# EAGLE library part RS-9110-N-11-22 (library Modules)
RS-9110-N-11-22 Self Contained 802.11b/g/n Module with Networking Stack
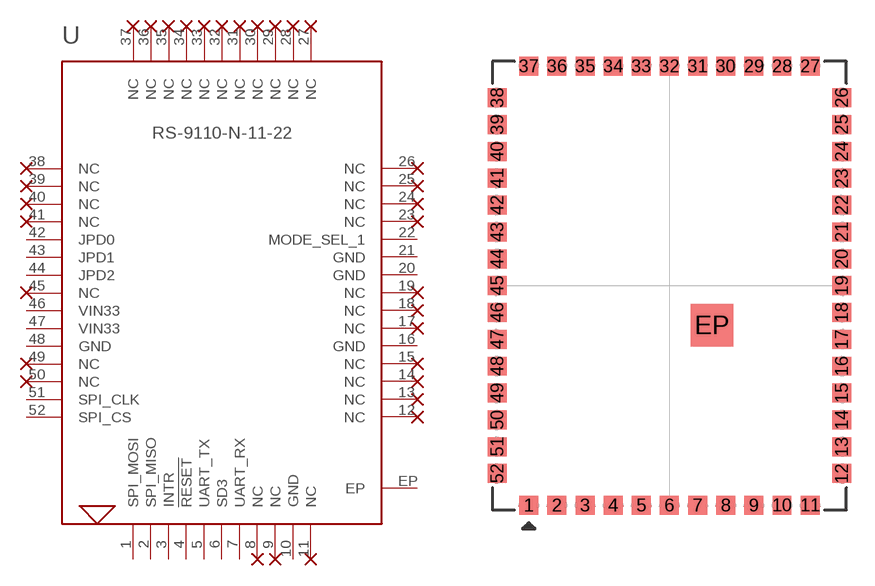
[diagram p2: symbol with the pads of RS9110-N-11-22; footprint RS9110-N-11-22]

Designator prefix U

## RS-9110-N-11-22-04 (ANTENNA: Integrated), RS-9110-N-11-22-05 (ANTENNA: uFL External)  [RS9110-N-11-22]
1  SPI_MOSI  in
2  SPI_MISO  out
3  INTR  out
4  !RESET  in
5  UART_TX  out
6  SD3
7  UART_RX  in
8  NC  nc
9  NC  nc
10  GND  pwr
11  NC  nc
12  NC  nc
13  NC  nc
14  NC  nc
15  NC  nc
16  GND  pwr
17  NC  nc
18  NC  nc
19  NC  nc
20  GND  pwr
21  GND  pwr
22  MODE_SEL_1  in
23  NC  nc
24  NC  nc
25  NC  nc
26  NC  nc
27  NC  nc
28  NC  nc
29  NC  nc
30  NC  nc
31  NC  nc
32  NC  nc
33  NC  nc
34  NC  nc
35  NC  nc
36  NC  nc
37  NC  nc
38  NC  nc
39  NC  nc
40  NC  nc
41  NC  nc
42  JPD0
43  JPD1
44  JPD2
45  NC  nc
46  VIN33  pwr
47  VIN33  pwr
48  GND  pwr
49  NC  nc
50  NC  nc
51  SPI_CLK  in
52  SPI_CS  in
EP  EP  pwr

## Footprint RS9110-N-11-22 (pad centres in mm)
smd 1.2 x 1.2: 1 -8.9,-13.9; 2 -7.12,-13.9; 3 -5.34,-13.9; 4 -3.56,-13.9; 5 -1.78,-13.9; 6 0,-13.9; 7 1.78,-13.9; 8 3.56,-13.9; 9 5.34,-13.9; 10 7.12,-13.9; 11 8.9,-13.9; 12 10.9,-11.9; 13 10.9,-10.2; 14 10.9,-8.5; 15 10.9,-6.8; 16 10.9,-5.1; 17 10.9,-3.4; 18 10.9,-1.7; 19 10.9,0; 20 10.9,1.7; 21 10.9,3.4; 22 10.9,5.1; 23 10.9,6.8; 24 10.9,8.5; 25 10.9,10.2; 26 10.9,11.9; 27 8.9,13.9; 28 7.12,13.9; 29 5.34,13.9; 30 3.56,13.9; 31 1.78,13.9; 32 0,13.9; 33 -1.78,13.9; 34 -3.56,13.9; 35 -5.34,13.9; 36 -7.12,13.9; 37 -8.9,13.9; 38 -10.9,11.9; 39 -10.9,10.2; 40 -10.9,8.5; 41 -10.9,6.8; 42 -10.9,5.1; 43 -10.9,3.4; 44 -10.9,1.7; 45 -10.9,0; 46 -10.9,-1.7; 47 -10.9,-3.4; 48 -10.9,-5.1; 49 -10.9,-6.8; 50 -10.9,-8.5; 51 -10.9,-10.2; 52 -10.9,-11.9
smd 2.7 x 2.7: EP 2.7,-2.5